# EAGLE library part FADERS (library DBCon)
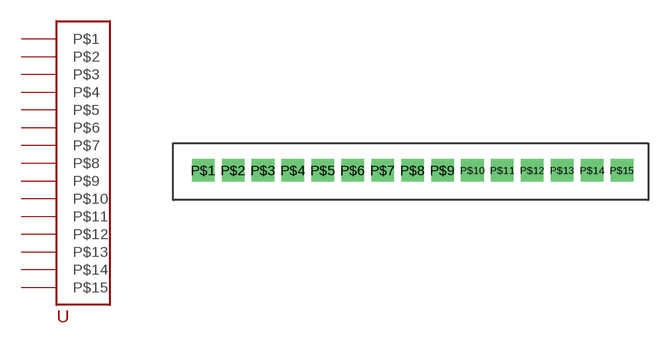
[diagram p4: symbol with the pads of CON15; footprint CON15]

Designator prefix -

## FADERS  [CON15]
P$1  P$1
P$2  P$2
P$3  P$3
P$4  P$4
P$5  P$5
P$6  P$6
P$7  P$7
P$8  P$8
P$9  P$9
P$10  P$10
P$11  P$11
P$12  P$12
P$13  P$13
P$14  P$14
P$15  P$15

## Footprint CON15 (pad centres in mm)
drill 1 square: P$1 2,2; P$2 4,2; P$3 6,2; P$4 8,2; P$5 10,2; P$6 12,2; P$7 14,2; P$8 16,2; P$9 18,2; P$10 20,2; P$11 22,2; P$12 24,2; P$13 26,2; P$14 28,2; P$15 30,2